# Altium schematic symbol library Modules.SchLib: 3 symbols
Pins are listed as number, name and electrical type; pins without a type are passive.

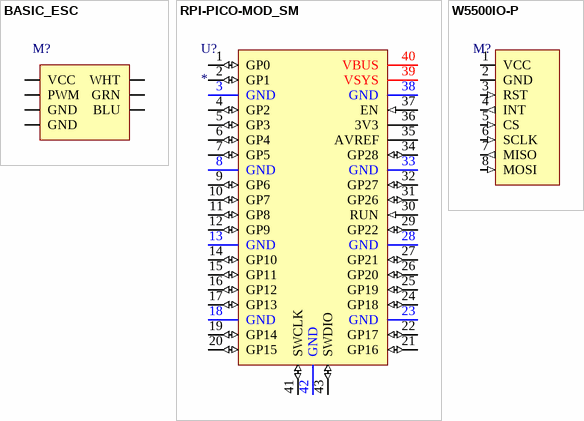
[diagram p0: symbols BASIC_ESC to W5500IO-P]

## BASIC_ESC
designator M?, comment Basic ESC  (value not drawn)
Blue Robotics Basic ESC / 7-26V Power, 30A, 5V PWM Signal; Manufacturer Part Number: BESC30-R3; Current: 30A Max; Created By: Flip B; Voltage: 7-26V; PWM Voltage: 5V; Manufacturer: Blue Robotics
footprint BASIC_ESC (Blue Robotics Basic ESC Module)
pins: 1 GND, 2 GND, 3 PWM, 4 VCC, 5 BLU, 6 GRN, 7 WHT

## RPI-PICO-MOD_SM
designator U?
RASPBERRY PI PICO RP2040 BOARD NO TEST PADS; Manufacturer: Raspberry Pi Foundation; Manufacturer Part No: SC0915; Mounting Technology: SMT; Supplier: DigiKey; Supplier Part No: 2648-SC0915CT-ND; Supplier Link: https://www.digikey.com/en/products/detail/raspberry-pi/SC0915/13684020; ComponentLink1Description: Footprint Source; ComponentLink1URL: https://github.com/amgsus/RPi-Pico-Altium
footprint RPI-PICO-MOD (RASPBERRY PI PICO RP2040 BOARD)
pins: 1 GP0 (io), 2 GP1 (io), 3 GND (power), 4 GP2 (io), 5 GP3 (io), 6 GP4 (io), 7 GP5 (io), 8 GND (power), 9 GP6 (io), 10 GP7 (io), 11 GP8 (io), 12 GP9 (io), 13 GND (power), 14 GP10 (io), 15 GP11 (io), 16 GP12 (io), 17 GP13 (io), 18 GND (power), 19 GP14 (io), 20 GP15 (io), 21 GP16 (io), 22 GP17 (io), 23 GND (power), 24 GP18 (io), 25 GP19 (io), 26 GP20 (io), 27 GP21 (io), 28 GND (power), 29 GP22 (io), 30 RUN (in), 31 GP26 (io), 32 GP27 (io), 33 GND (power), 34 GP28 (io), 35 AVREF (power), 36 3V3 (power), 37 EN (in), 38 GND (power), 39 VSYS (power), 40 VBUS (power), 41 SWCLK (io), 42 GND (power), 43 SWDIO (io)

## W5500IO-P
designator M?, comment W5x00 Breakout Board  (value not drawn)
W5x00 Breakout Board (W5500IO-P Compatible boards); Made By: Robert Pafford; Voltage: 3.3V; ComponentLink1Description: Product Webpage; ComponentLink1URL: https://maker.wiznet.io/2019/04/02/w5500io-p/
footprint W5500IO-P
pins: 1 VCC (power), 2 GND (power), 3 RST (in), 4 INT (out), 5 CS (in), 6 SCLK (in), 7 MISO (out), 8 MOSI (in)